# Altium schematic symbol library sipex.SCHLIB: 3 symbols
Pins are listed as number, name and electrical type; pins without a type are passive.

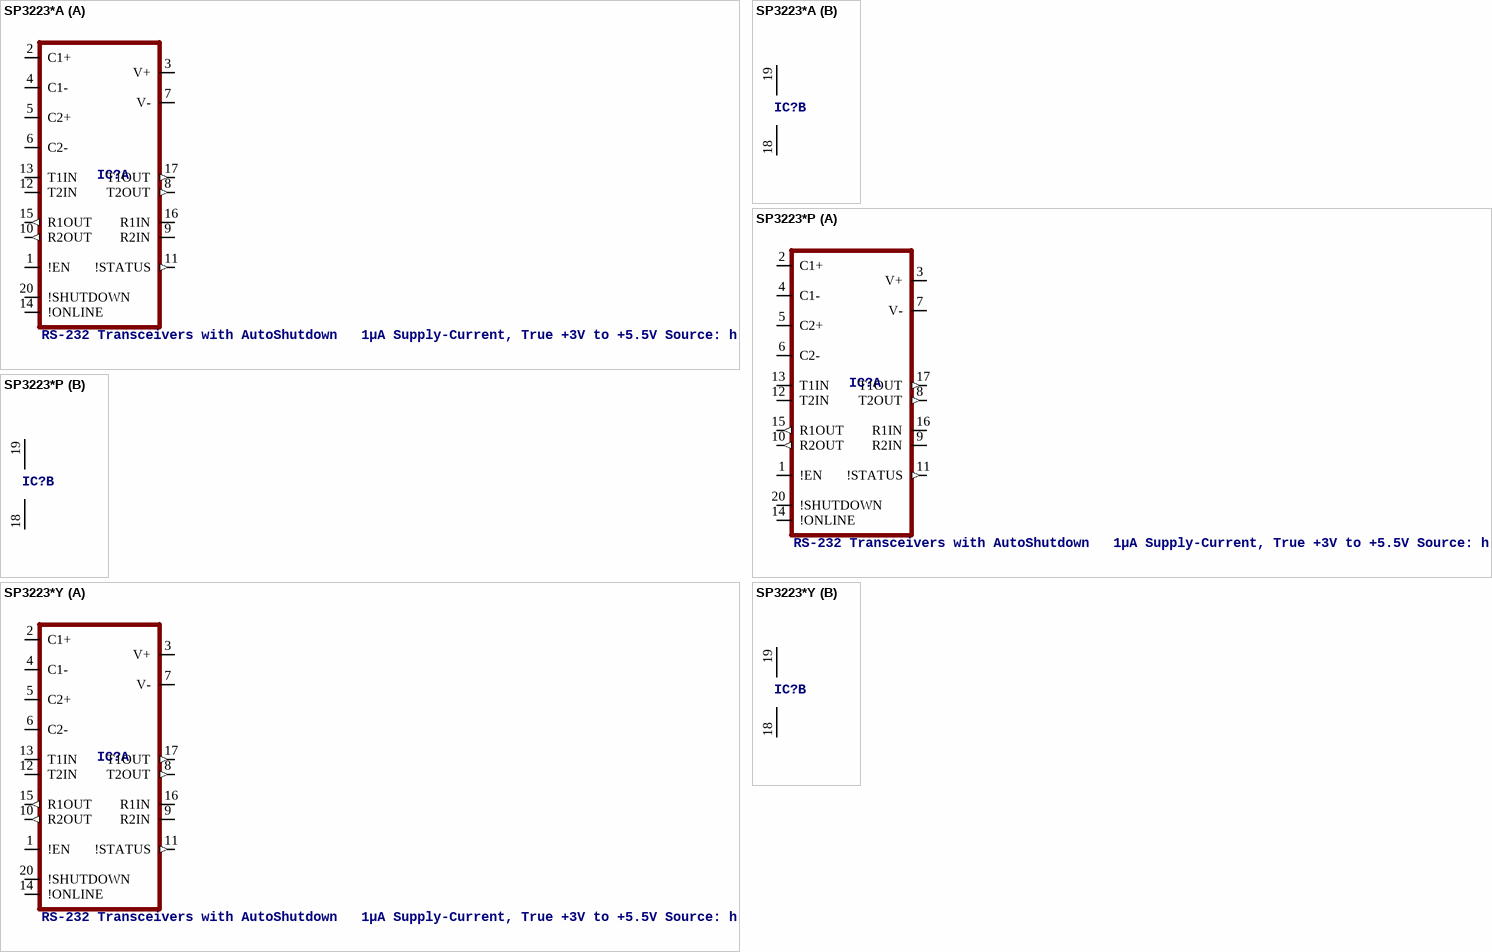
[diagram p0: symbols SP3223*A to SP3223*Y]

## SP3223*A
designator IC?, comment RS-232 Transceivers with AutoShutdown   1µA Supply-Current, True +3V to +5.5V Source: http://www.sipex.com/Files/Datasheets/SP3223.pdf (Pincompatible to Maxim  MAX3223)
MPN: SP3223EEA-L; MPN: SP3223ECA-L; MPN: SP3223EUCA-L; OC_FARNELL: unknown; OC_NEWARK: unknown; OC_FARNELL: 9386823; OC_NEWARK: 24R0306; OC_FARNELL: 9386815; OC_NEWARK: 24R0302; OC_NEWARK: 24R0310
footprint SSOP20
part A pins: 1 !EN, 2 C1+, 3 V+, 4 C1-, 5 C2+, 6 C2-, 7 V-, 8 T2OUT (out), 9 R2IN, 10 R2OUT (out), 11 !STATUS (out), 12 T2IN, 13 T1IN, 14 !ONLINE, 15 R1OUT (out), 16 R1IN, 17 T1OUT (out), 20 !SHUTDOWN
part B pins: 18 GND (power), 19 VCC (power)

## SP3223*P
designator IC?, comment RS-232 Transceivers with AutoShutdown   1µA Supply-Current, True +3V to +5.5V Source: http://www.sipex.com/Files/Datasheets/SP3223.pdf (Pincompatible to Maxim  MAX3223)
OC_FARNELL: unknown; OC_NEWARK: unknown
footprint DIL20
part A pins: 1 !EN, 2 C1+, 3 V+, 4 C1-, 5 C2+, 6 C2-, 7 V-, 8 T2OUT (out), 9 R2IN, 10 R2OUT (out), 11 !STATUS (out), 12 T2IN, 13 T1IN, 14 !ONLINE, 15 R1OUT (out), 16 R1IN, 17 T1OUT (out), 20 !SHUTDOWN
part B pins: 18 GND (power), 19 VCC (power)

## SP3223*Y
designator IC?, comment RS-232 Transceivers with AutoShutdown   1µA Supply-Current, True +3V to +5.5V Source: http://www.sipex.com/Files/Datasheets/SP3223.pdf (Pincompatible to Maxim  MAX3223)
MPN: SP3223EEY-L; MPN: SP3223ECY-L; OC_FARNELL: unknown; OC_NEWARK: unknown; OC_FARNELL: 9386831; OC_NEWARK: 24R0308; OC_FARNELL: 1758636; OC_NEWARK: 24R0304
footprint TSSOP20
part A pins: 1 !EN, 2 C1+, 3 V+, 4 C1-, 5 C2+, 6 C2-, 7 V-, 8 T2OUT (out), 9 R2IN, 10 R2OUT (out), 11 !STATUS (out), 12 T2IN, 13 T1IN, 14 !ONLINE, 15 R1OUT (out), 16 R1IN, 17 T1OUT (out), 20 !SHUTDOWN
part B pins: 18 GND (power), 19 VCC (power)